# Altium schematic symbol library BFR380F.SchLib: 1 symbol
Pins are listed as number, name and electrical type; pins without a type are passive.

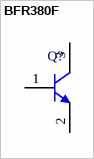
[diagram p0: symbol BFR380F]

## BFR380F
designator Q?
NPN Silicon RF Transistor, 6 V VCEO, 80 mA IC, 13.5 dB Gmax, TSFP-3-1, Green; Manufacturer: Infineon; PartNumber: BFR380F; Gmax (typ): 13.5 dB; Green: yes; Group: Si transistors with high gain up to 2.5 GHz; IC (max): 80 mA; NFmin (typ): 1.1 dB; Ptot (max): 380.0 mW; VCEO (max): 6 V; DatasheetVersion: Sep-2010; PackageReference: TSFP-3-1; PackageDescription: 3-Pin Thin Small Flat Package, 0.8 x 1.2 mm Body, 0.4 mm Pitch; Supplier 1: Farnell; Supplier Part Number 1: 1095668; Supplier 2: Mouser; Supplier Part Number 2: N/A; Halogen-free: yes; Mounting Technology: Surface Mount; ComponentLink1Description: Manufacturer URL; ComponentLink1URL: http://www.infineon.com/; ComponentLink2Description: Datasheet; ComponentLink2URL: http://www.infineon.com/dgdl/bfr380f.pdf?folderId=db3a30431400ef68011425b1354605c1&fileId=db3a30431400ef68011426c34e340686&location=en.Products.RF.RF_Transistors_.High_Linearity_Si-_and_SiGe_C-Transistors_for_use_up_to_6_GHz.DATASHEET.bfr380f.pdf; ComponentLink3Description: Package Specification; ComponentLink3URL: http://www.infineon.com/dgdl/TSSFP-3-1-Package_Overview.pdf?folderId=db3a30431936bc4b011953c8310c373d&fileId=db3a30431936bc4b011953d3a42e3756
footprint INF-TSFP-3-1_N (SOT23, 3-Leads, Body 1.2x0.8 mm, Pitch 0.4 mm, IPC Medium Density)
footprint INF-TSFP-3-1_L (SOT23, 3-Leads, Body 1.2x0.8 mm, Pitch 0.4 mm, IPC High Density)
footprint INF-TSFP-3-1_M (SOT23, 3-Leads, Body 1.2x0.8 mm, Pitch 0.4 mm, IPC Low Density)
pins: 1 B, 2 E, 3 C